# Altium footprint library Buck.PcbLib: 58 footprints (part 2 of 4)
Each footprint in its own frame and in the unit in brackets; x right, y up, seen from the top. Pads: shape width x height; smd on the part's side, far side on the other; paste and mask are expansions set on the pad; w line width, h text height; cw(c..) or ccw(c..) is an arc to the next point about the centre after c.
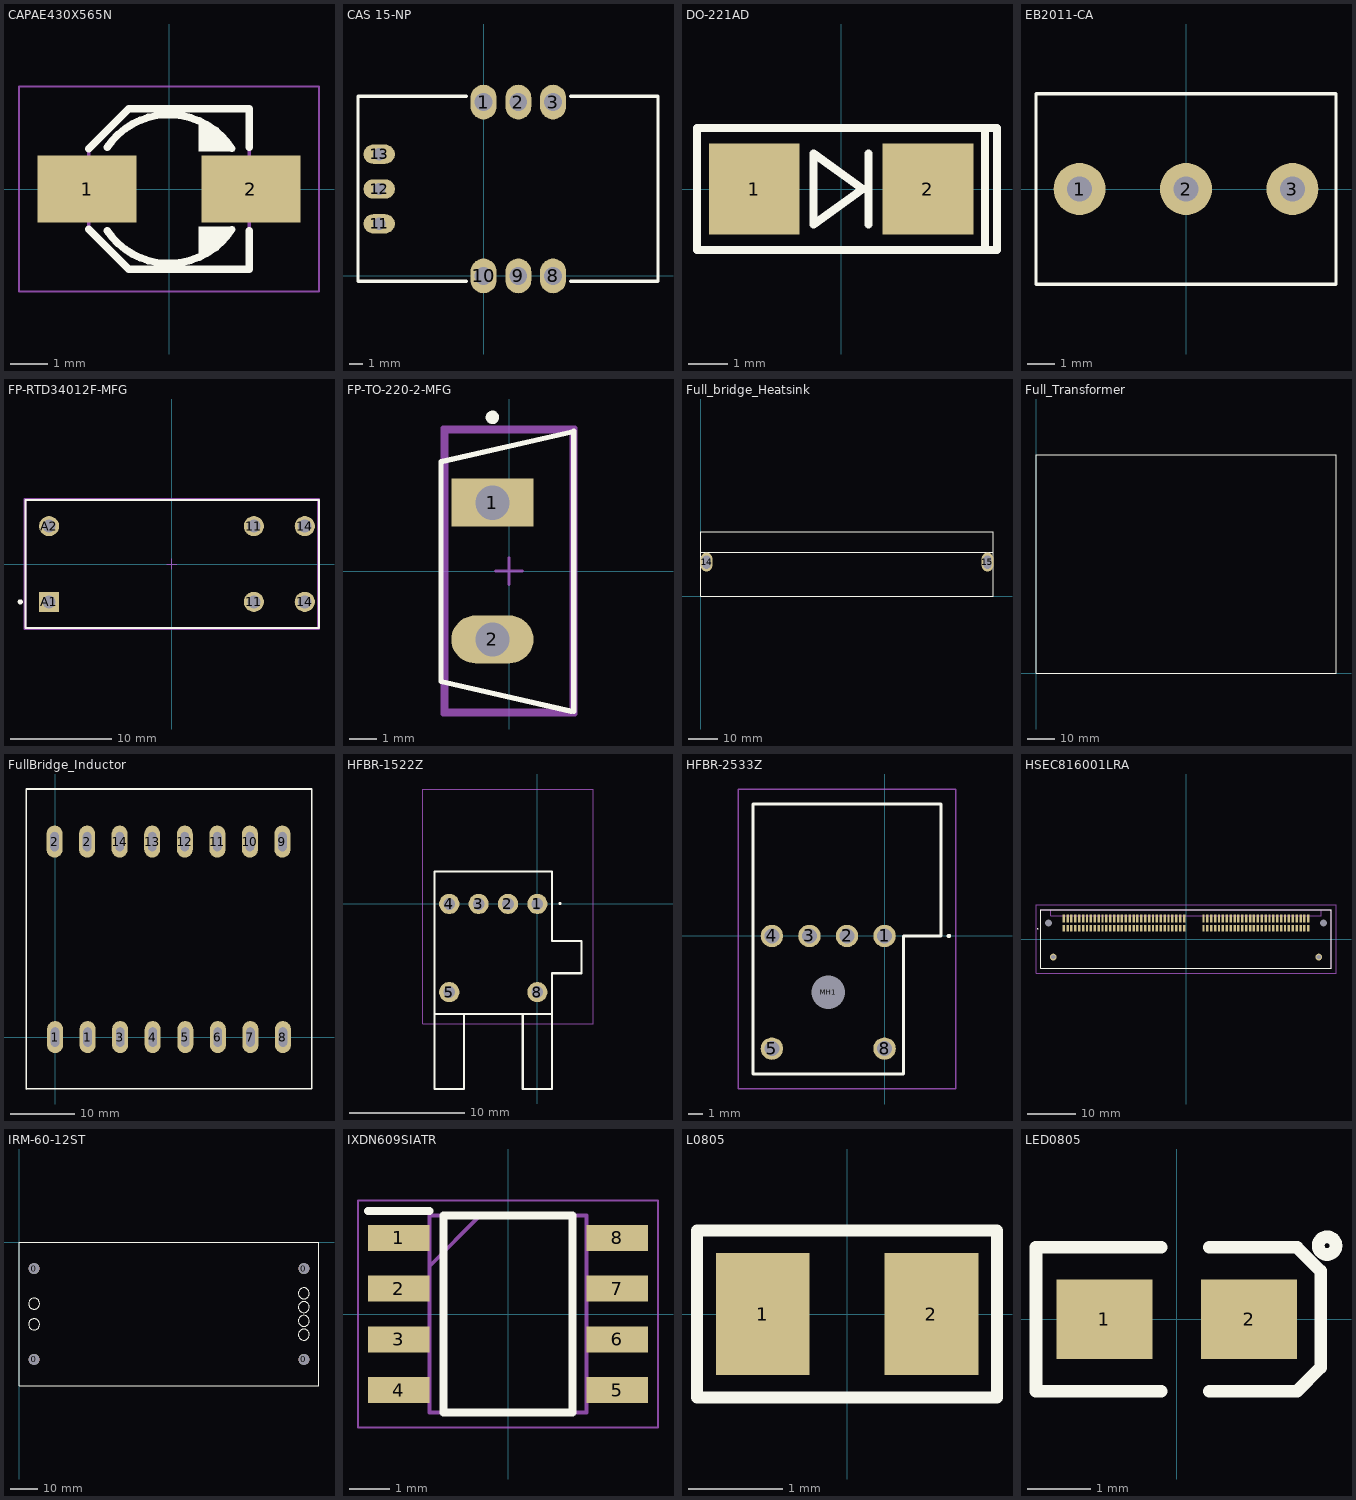
[diagram p1: the footprints below, top view; thin cyan lines are the x and y axes]

## CAPAE430X565N [mm]
pads (2):
  rect 2.65x1.8 smd: 1(-2.2,0) 2(2.2,0)
Top Overlay:
  region: 1.752,-1.016 1.319,-1.637 0.8,-1.878 0.8,-1.016
  region: 1.752,1.016 1.319,1.637 0.8,1.878 0.8,1.016
  lines w0.2: -2.15,-1.075 -1.075,-2.15 2.15,-2.15 2.15,-1.118 ; -2.15,1.075 -1.075,2.15 2.15,2.15 2.15,1.118 ; -1.66,-1.115 ccw(c0,0) 1.679,-1.087 ; -1.66,1.115 cw(c0,0) 1.679,1.087
Mechanical 15:
  lines w0.1: -2.15,-1.075 -1.075,-2.15 2.15,-2.15 2.15,2.15 -1.075,2.15 -2.15,1.075 -2.15,-1.075
Mechanical 20:
  lines w0.05: -4.025,-2.75 -4.025,2.75 4.025,2.75 4.025,-2.75 -4.025,-2.75
3D body "EDH106M025A9BAA.stp": height 5.8, standoff -4.65, extent -10,-3.376 10,3.376

## CAS 15-NP [mm]
pads (9):
  oval 1.9x2.54 hole 1.3: 1(0,12.7) 2(2.54,12.7) 3(5.08,12.7) 8(5.08,0) 9(2.54,0) 10(0,0)
  oval 2.3x1.4 hole 0.9: 11(-7.62,3.81) 12(-7.62,6.35) 13(-7.62,8.89)
Top Overlay:
  lines w0.254: -1.27,-0.39 -9.17,-0.39 -9.17,13.11 -1.27,13.11 ; 6.38,-0.39 12.74,-0.39 12.74,13.11 6.38,13.11

## DO-221AD [mm]
pads (2):
  rect 2.3x2.3 smd: 1(-2.2,0) 2(2.2,0)
Top Overlay:
  lines w0.203: 0.7,-0.9 0.7,0.9 ; 3.65,-1.55 3.65,1.55 ; -3.65,-1.55 3.95,-1.55 3.95,1.55 -3.65,1.55 -3.65,-1.55 ; -0.7,-0.9 -0.7,0.9 0.55,0 -0.7,-0.9
3D body "User Library-DO-214AC SMA.step": height 2.4, standoff 0, extent -2.6,-1.3 2.6,1.3

## EB2011-CA [mil]
pads (3):
  round 75 hole 36: 1(-153.54,0) 2(0,0) 3(153.54,0)
Top Overlay:
  lines w5: -216.54,-137.8 216.54,-137.8 216.54,137.8 -216.54,137.8 -216.54,-137.8

## FP-RTD34012F-MFG [mm]
pads (6):
  round 2 hole 1.3 paste-1000 mask+0: 11(8.15,-3.75) 11(8.15,3.75) 14(13.19,-3.75) 14(13.19,3.75) A2(-12.15,3.75)
  rect 2x2 hole 1.3 paste-1000 mask+0: A1(-12.15,-3.75)
Top Overlay:
  circle w0.25: c-15,-3.75 r0.125
  lines w0.2: -14.5,-6.35 -14.5,6.35 14.6,6.35 14.6,-6.35 -14.5,-6.35
Top Assembly:
  lines w0.2: -14.6,-6.45 -14.6,6.45 14.6,6.45 14.6,-6.45 -14.6,-6.45
  text ".Designator" at 0.753,0.078 h1
Top 3D Body:
  lines w0.2: -14.5,-6.35 -14.5,6.35 14.5,6.35 14.5,-6.35 -14.5,-6.35
Top Courtyard:
  lines w0.2: -14.6,-6.45 -14.6,6.45 14.6,6.45 14.6,-6.45 -14.6,-6.45
Top Component Center:
  lines w0.1: -0.5,0 0.5,0 ; 0,-0.5 0,0.5
3D body "Relay_TE_Connectivity_RTD34012F_eec.STEP": height 0.25, standoff 0, extent -14.6,-6.45 14.6,6.45

## FP-TO-220-2-MFG [mil]
pads (2):
  rect 120x70 hole 50 paste-39370.1 mask+0: 1(-24.26,100)
  rrect100% 120x70 hole 50 paste-39370.1 mask+0: 2(-24.26,-100)
Top Overlay:
  circle w9.84: c-24.26,224.69 r4.92
  lines w7.87: -99.41,158.27 -99.41,-161.42 90.55,-204.72 ; -99.41,159.97 91.86,203.28 ; 94.49,-204.72 94.49,204.72
Top Assembly:
  lines w7.87: -96.44,-208.94 -96.44,208.94 96.44,208.94 96.44,-208.94 -96.44,-208.94
  text ".Designator" at 0,7.41 h39.37
Top 3D Body:
  lines w7.87: -92.5,-205 -92.5,205 92.5,205 92.5,-205 -92.5,-205
Top Courtyard:
  lines w7.87: -96.44,-208.94 -96.44,208.94 96.44,208.94 96.44,-208.94 -96.44,-208.94
Top Component Center:
  lines w3.94: -19.68,0 19.68,0 ; 0,-19.68 0,19.68
3D body "Diode_Wolfspeed_C4D15120A_eec.STEP": height 10, standoff 0, extent -96.44,-208.94 96.44,208.94

## Full_bridge_Heatsink [mm]
pads (2):
  oval 4x6.5 hole 4.5 slot 2.7 at 0 deg: 14(2.03,11.7) 15(97.97,11.7)
Top Overlay:
  lines w0.254: 100,22.098 99.998,22.1 0,22.1 0,15 ; 100,22.1 100,15 ; 0,15 0,0 100,0 100,15 ; 0,15 100,15

## Full_Transformer [mm]
Top Overlay:
  lines w0.254: 0,0 110,0 110,80 0,80 0,0

## FullBridge_Inductor [mm]
pads (16):
  oval 2.5x5 hole 3 slot 1.3 at 0 deg: 1(0,0) 1(5.08,0) 2(-0.076,30.505) 2(5.004,30.505) 3(10.16,0) 4(15.24,0) 5(20.32,0) 6(25.4,0) 7(30.48,0) 8(35.56,0) 9(35.484,30.505) 10(30.404,30.505) 11(25.324,30.505) 12(20.244,30.505) 13(15.164,30.505) 14(10.084,30.505)
Top Overlay:
  lines w0.254: -4.521,-8.103 -4.519,-8.103 -4.507,-8.09 40.081,-8.09 40.079,-8.088 40.079,38.71 -4.521,38.71 -4.521,-8.103

## HFBR-1522Z [mm]
pads (6):
  round 1.75 hole 1.01: 1(0,0) 2(-2.54,0) 3(-5.08,0) 4(-7.62,0) 5(-7.62,-7.62) 8(0,-7.62)
Top Overlay:
  lines w0.2: -6.35,-9.52 -6.35,-16 -8.89,-16 -8.89,-9.52 ; -1.27,-9.52 -1.27,-16 1.27,-16 1.27,-9.52 ; 1.905,0 cw(c1.955,0) 2.005,0 ; -8.89,-9.52 -8.89,2.8 1.27,2.8 1.27,-3.2 3.81,-3.2 3.81,-6 1.27,-6 1.27,-9.52 ; -8.89,-9.52 1.27,-9.52
Mechanical 20:
  lines w0.1: -9.89,-10.35 4.81,-10.35 4.81,9.94 -9.89,9.94 -9.89,-10.35

## HFBR-2533Z [mm]
pads (7):
  round 1.515 hole 1.01: 1(0,0) 2(-2.54,0) 3(-5.08,0) 4(-7.62,0) 5(-7.62,-7.62) 8(0,-7.62)
  round 1.125 hole 2.25 unplated: MH1(-3.81,-3.81)
Top Overlay:
  lines w0.2: -8.89,-9.35 -8.89,8.94 ; -8.89,-9.35 -8.89,8.94 ; -8.89,-9.35 1.27,-9.35 ; -8.89,-9.35 1.27,-9.35 ; -8.89,8.94 3.81,8.94 ; -8.89,8.94 3.81,8.94 ; 1.27,-9.35 1.27,0 ; 1.27,-9.35 1.27,0 ; 1.27,0 3.81,0 ; 1.27,0 3.81,0 ; 3.81,0 3.81,8.94 ; 3.81,0 3.81,8.94 ; 4.3,0 cw(c4.35,0) 4.4,0 ; 4.3,0 ccw(c4.35,0) 4.4,0 ; 4.3,0 cw(c4.35,0) 4.4,0
Mechanical 15:
  lines w0.1: -8.89,-9.35 -8.89,8.94 ; -8.89,-9.35 -8.89,8.94 ; -8.89,-9.35 1.27,-9.35 ; -8.89,-9.35 1.27,-9.35 ; -8.89,8.94 1.27,8.94 ; -8.89,8.94 1.27,8.94 ; 1.27,-9.35 1.27,0 ; 1.27,-9.35 1.27,0 ; 1.27,0 3.81,0 ; 1.27,0 3.81,0 ; 1.27,8.94 3.81,8.94 ; 1.27,8.94 3.81,8.94 ; 3.81,0 3.81,8.94 ; 3.81,0 3.81,8.94
Mechanical 20:
  lines w0.1: -9.89,-10.35 4.81,-10.35 4.81,9.94 -9.89,9.94 -9.89,-10.35

## HSEC816001LRA [mm]
pads (124):
  rect 0.5x1.35 smd: 1(-25.2,2.2) 3(-24.4,2.2) 5(-23.6,2.2) 7(-22.8,2.2) 9(-22,2.2) 11(-21.2,2.2) 13(-20.4,2.2) 15(-19.6,2.2) 17(-18.8,2.2) 19(-18,2.2) 21(-17.2,2.2) 23(-16.4,2.2) 25(-15.6,2.2) 27(-14.8,2.2) 29(-14,2.2) 31(-13.2,2.2) 33(-12.4,2.2) 35(-11.6,2.2) 37(-10.8,2.2) 39(-10,2.2) 41(-9.2,2.2) 43(-8.4,2.2) 45(-7.6,2.2) 47(-6.8,2.2) 49(-6,2.2) 51(-5.2,2.2) 53(-4.4,2.2) 55(-3.6,2.2) 57(-2.8,2.2) 59(-2,2.2) 61(-1.2,2.2) 63(-0.4,2.2) 65(3.6,2.2) 67(4.4,2.2) 69(5.2,2.2) 71(6,2.2) 73(6.8,2.2) 75(7.6,2.2) 77(8.4,2.2) 79(9.2,2.2) 81(10,2.2) 83(10.8,2.2) 85(11.6,2.2) 87(12.4,2.2) 89(13.2,2.2) 91(14,2.2) 93(14.8,2.2) 95(15.6,2.2) 97(16.4,2.2) 99(17.2,2.2) 101(18,2.2) 103(18.8,2.2) 105(19.6,2.2) 107(20.4,2.2) 109(21.2,2.2) 111(22,2.2) 113(22.8,2.2) 115(23.6,2.2) 117(24.4,2.2) 119(25.2,2.2)
  rect 0.5x1.65 smd: 2(-25.2,4.2) 4(-24.4,4.2) 6(-23.6,4.2) 8(-22.8,4.2) 10(-22,4.2) 12(-21.2,4.2) 14(-20.4,4.2) 16(-19.6,4.2) 18(-18.8,4.2) 20(-18,4.2) 22(-17.2,4.2) 24(-16.4,4.2) 26(-15.6,4.2) 28(-14.8,4.2) 30(-14,4.2) 32(-13.2,4.2) 34(-12.4,4.2) 36(-11.6,4.2) 38(-10.8,4.2) 40(-10,4.2) 42(-9.2,4.2) 44(-8.4,4.2) 46(-7.6,4.2) 48(-6.8,4.2) 50(-6,4.2) 52(-5.2,4.2) 54(-4.4,4.2) 56(-3.6,4.2) 58(-2.8,4.2) 60(-2,4.2) 62(-1.2,4.2) 64(-0.4,4.2) 66(3.6,4.2) 68(4.4,4.2) 70(5.2,4.2) 72(6,4.2) 74(6.8,4.2) 76(7.6,4.2) 78(8.4,4.2) 80(9.2,4.2) 82(10,4.2) 84(10.8,4.2) 86(11.6,4.2) 88(12.4,4.2) 90(13.2,4.2) 92(14,4.2) 94(14.8,4.2) 96(15.6,4.2) 98(16.4,4.2) 100(17.2,4.2) 102(18,4.2) 104(18.8,4.2) 106(19.6,4.2) 108(20.4,4.2) 110(21.2,4.2) 112(22,4.2) 114(22.8,4.2) 116(23.6,4.2) 118(24.4,4.2) 120(25.2,4.2)
  round 1.397 hole 0.86: MH1(-27.35,-3.725) MH2(27.35,-3.725)
  round 0.725 hole 1.45 unplated: MH3(28.3,3.275) MH4(-28.3,3.275)
Top Overlay:
  lines w0.1: -29.9,-6.025 29.9,-6.025 29.9,6.025 -29.9,6.025 -29.9,-6.025
  lines w0.2: -30.6,2.1 ccw(c-30.55,2.1) -30.5,2.1 ; -30.6,2.1 cw(c-30.55,2.1) -30.5,2.1 ; -30.6,2.1 ccw(c-30.55,2.1) -30.5,2.1
Mechanical 15:
  lines w0.2: -29.9,-6.025 29.9,-6.025 29.9,6.025 -29.9,6.025 -29.9,-6.025 ; -27.9,4.8 27.9,4.8 27.9,6 -27.9,6 -27.9,4.8
Mechanical 20:
  lines w0.1: -30.9,-7.025 30.9,-7.025 30.9,7.025 -30.9,7.025 -30.9,-7.025
3D body "HSEC8-160-01-L-RA.stp": height 5.3, standoff -5, extent -29.9,-6.025 29.9,6.025

## IRM-60-12ST [mm]
pads (4):
  round 4 hole 4: 0(5.5,-42.5) 0(5.5,-9.5) 0(103.5,-42.5) 0(103.5,-9.5)
Top Overlay:
  circle w0.254: c5.5,-22.25 r2
  circle w0.254: c5.5,-29.75 r2
  circle w0.254: c103.5,-18.5 r2
  circle w0.254: c103.5,-33.5 r2
  circle w0.254: c103.5,-28.5 r2
  circle w0.254: c103.5,-23.5 r2
  lines w0.254: 0,-52 109,-52 109,0 0,0 0,-52

## IXDN609SIATR [mm]
pads (8):
  rect 1.532x0.65 smd: 1(-2.734,1.905) 2(-2.734,0.635) 3(-2.734,-0.635) 4(-2.734,-1.905) 5(2.734,-1.905) 6(2.734,-0.635) 7(2.734,0.635) 8(2.734,1.905)
Top Overlay:
  lines w0.2: -3.5,2.58 -1.968,2.58 ; -1.618,-2.464 -1.618,2.464 1.618,2.464 1.618,-2.464 -1.618,-2.464
Mechanical 15:
  lines w0.1: -1.968,1.194 -0.698,2.464 ; -1.968,-2.464 -1.968,2.464 1.968,2.464 1.968,-2.464 -1.968,-2.464
Mechanical 20:
  lines w0.05: -3.75,-2.841 -3.75,2.841 3.75,2.841 3.75,-2.841 -3.75,-2.841
3D body "IXDN609SIATR.stp": height 1.68, standoff 0, extent -2.997,-2.464 2.997,2.464

## L0805 [mm] "0805"
pads (2):
  rect 1x1.3 smd: 1(-0.9,0) 2(0.9,0)
Top Overlay:
  lines w0.127: -1.6,-0.889 -1.6,0.889 1.6,0.889 1.6,-0.889 -1.6,-0.889
3D body "SW3dPS-R0805.STEP": height 0.47, standoff 0, extent -0.934,-0.617 1.066,0.635

## LED0805 [mil] "LED-0805"
pads (2):
  rect 60x50 smd: 1(-45.28,0) 2(45.28,0)
Top Overlay:
  circle w7.87: c94,46 r5.57
  lines w7.87: -9.72,-45 -88,-45 -88,45 -9.72,45 ; 20.28,-45 75.28,-45 90,-30.28 90,30.28 75.28,45 20.28,45
3D body "SW3dPS-led805.STEP": height 43.31, standoff -0.5, extent -40,-25 40,24.99